# Altium footprint library CONN_RF.PcbLib: 23 footprints (part 1 of 2)
Each footprint in its own frame and in the unit in brackets; x right, y up, seen from the top. Pads: shape width x height; smd on the part's side, far side on the other; paste and mask are expansions set on the pad; w line width, h text height; cw(c..) or ccw(c..) is an arc to the next point about the centre after c.
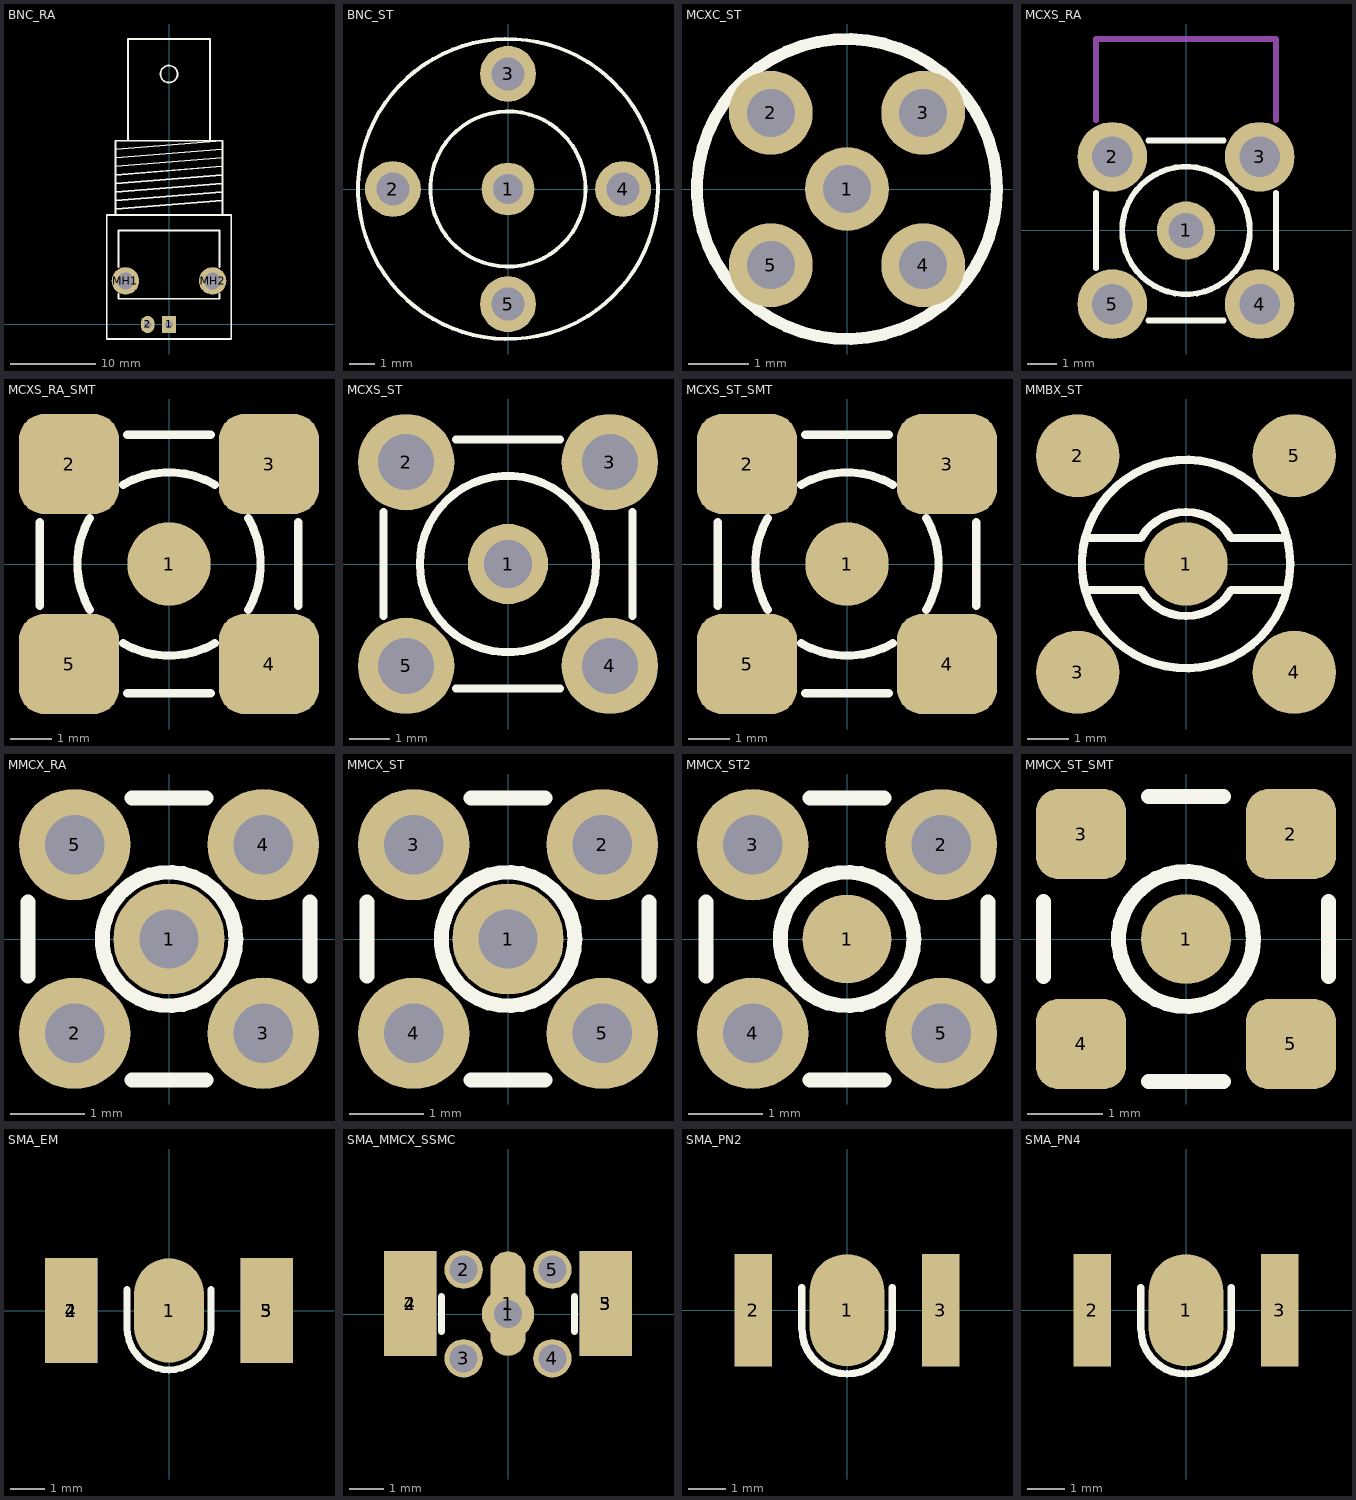
[diagram p0: the footprints below, top view; thin cyan lines are the x and y axes]

## BNC_RA [mm] "BNC connector, right angle PCB-mounted Elbow"
pads (4):
  rect 1.6x2 hole 0.9: 1(0,0)
  oval 1.6x2 hole 0.9: 2(-2.5,0)
  round 3.2 hole 2: MH1(-5.1,5.1) MH2(5.1,5.1)
Top Overlay:
  circle w0.2: c0,29.3 r1
  lines w0.2: -6.25,13.5 6.25,14.5 ; -6.25,14.5 6.25,15.5 ; -6.25,15.5 6.25,16.5 ; -6.25,16.5 6.25,17.5 ; -6.25,17.5 6.25,18.5 ; -6.25,18.5 6.25,19.5 ; -6.25,19.5 6.25,20.5 ; -6.25,20.5 6.25,21.5 ; -5.9,3.6 -5.9,3 5.9,3 5.9,3.6 ; -5.9,6.7 -5.9,11 5.9,11 5.9,6.7 ; -6.25,12.8 -7.3,12.8 -7.3,-1.7 7.3,-1.7 7.3,12.8 6.25,12.8 ; -6.25,12.8 -6.25,21.5 -4.8,21.5 ; -6.25,12.8 6.25,12.8 ; -4.8,21.5 4.8,21.5 ; -4.8,21.5 -4.8,33.4 4.8,33.4 4.8,21.5 ; 4.8,21.5 6.25,21.5 ; 6.25,12.8 6.25,21.5
3D body "User Library-bnc-1.SLDPRT": height 17.13, standoff -2.47, extent -7.2,-1.6 7.2,33.3

## BNC_ST [mil] "BNC Short Connector"
height 543.31
pads (5):
  round 80 hole 45: 1(0,0)
  round 85 hole 50: 2(-175.2,0) 3(0,175.2) 4(175.2,0) 5(0,-175.2)
Top Overlay:
  circle w5.91: c0,0 r118.11
  circle w5.91: c0,0 r228.35
3D body "My BNC Short.STEP": height 538.19, standoff -173.23, extent -218.11,-218.11 218.11,218.11

## MCXC_ST [mil] "CONN, RF, MCX, CIRCULAR, STRAIGHT"
pads (5):
  round 55 hole 31.5: 1(0,0) 2(-50,50) 3(50,50) 4(50,-50) 5(-50,-50)
Top Overlay:
  circle w7.87: c0,0 r98.43

## MCXS_RA [mm] "CONN, RF, MCX, SQUARE, STRAIGHT, MCX-J-P-H-RA-TH1"
pads (5):
  round 2 hole 1.2: 1(0,0)
  round 2.4 hole 1.4: 2(-2.54,2.54) 3(2.54,2.54) 4(2.54,-2.54) 5(-2.54,-2.54)
Top Overlay:
  circle w0.2: c0,0 r2.2
  lines w0.2: -3.1,-1.3 -3.1,1.3 ; -1.3,-3.1 1.3,-3.1 ; -1.3,3.1 1.3,3.1 ; 3.1,-1.3 3.1,1.3
Mechanical 1:
  lines w0.2: -3.1,3.8 -3.1,6.6 3.1,6.6 3.1,3.8
3D body "733660032.stp": height 6, standoff -4, extent -3,-2.965 3,6.565

## MCXS_RA_SMT [mm] "CONN, RF, MCX, SQUARE, STRAIGHT, MCX-J-P-H-RA-SM1"
pads (5):
  round 2 smd: 1(0,0)
  rrect50% 2.4x2.4 smd: 2(-2.4,2.4) 3(2.4,2.4) 4(2.4,-2.4) 5(-2.4,-2.4)
Top Overlay:
  lines w0.2: -3.1,-1 -3.1,1 ; -1.905,-1.1 cw(c0,0) -1.905,1.1 ; -1.1,-1.905 ccw(c0,0) 1.1,-1.905 ; -1.1,1.905 cw(c0,0) 1.1,1.905 ; -1,-3.1 1,-3.1 ; -1,3.1 1,3.1 ; 1.905,-1.1 ccw(c0,0) 1.905,1.1 ; 3.1,-1 3.1,1
3D body "MCX_R_SMT.stp": height 6.5, standoff 0, extent -3,-3.05 3,6.45

## MCXS_ST [mm] "CONN, RF, MCX, SQUARE, STRAIGHT, MCX-J-P-H-ST-TH1"
pads (5):
  round 2 hole 1.2: 1(0,0)
  round 2.4 hole 1.4: 2(-2.54,2.54) 3(2.54,2.54) 4(2.54,-2.54) 5(-2.54,-2.54)
Top Overlay:
  circle w0.2: c0,0 r2.2
  lines w0.2: -3.1,-1.3 -3.1,1.3 ; -1.3,-3.1 1.3,-3.1 ; -1.3,3.1 1.3,3.1 ; 3.1,-1.3 3.1,1.3
3D body "MCX-J-P-H-ST-TH1.stp": height 5.91, standoff -2.6, extent -3,-3 3,3

## MCXS_ST_SMT [mm] "CONN, RF, MCX, SQUARE, STRAIGHT, MCX-J-P-H-ST-SM1"
pads (5):
  round 2 smd: 1(0,0)
  rrect50% 2.4x2.4 smd: 2(-2.4,2.4) 3(2.4,2.4) 4(2.4,-2.4) 5(-2.4,-2.4)
Top Overlay:
  lines w0.2: -3.1,-1 -3.1,1 ; -1.905,-1.1 cw(c0,0) -1.905,1.1 ; -1.1,-1.905 ccw(c0,0) 1.1,-1.905 ; -1.1,1.905 cw(c0,0) 1.1,1.905 ; -1,-3.1 1,-3.1 ; -1,3.1 1,3.1 ; 1.905,-1.1 ccw(c0,0) 1.905,1.1 ; 3.1,-1 3.1,1
3D body "MCX_S_SMT.stp": height 6, standoff 0, extent -2.94,-2.94 2.94,2.94

## MMBX_ST [mm]
pads (5):
  round 2 smd: 1(0,0) 2(-2.6,2.6) 3(-2.6,-2.6) 4(2.6,-2.6) 5(2.6,2.6)
Top Overlay:
  circle w0.2: c0,0 r2.5
  lines w0.2: -2.3,-0.625 -1.083,-0.625 ccw(c0,0) 1.083,-0.625 2.3,-0.625 ; -2.3,0.625 -1.083,0.625 cw(c0,0) 1.083,0.625 2.3,0.625
3D body "mmbx_R223424000.stp": height 3.1, standoff 0, extent -5.798,-5.798 5.798,5.798

## MMCX_RA [mm] "RF connector, right-angle THD, TE 1-1634010-0, TE 1408151"
pads (5):
  round 1.5 hole 0.8 mask+0.1: 1(0,0) 2(-1.27,-1.27) 3(1.27,-1.27) 4(1.27,1.27) 5(-1.27,1.27)
Top Overlay:
  circle w0.2: c0,0 r0.9
  lines w0.2: -1.9,-0.5 -1.9,0.5 ; -0.5,-1.9 0.5,-1.9 ; -0.5,1.9 0.5,1.9 ; 1.9,-0.5 1.9,0.5
3D body "mmcx pcb right angle plug.step": height 3.61, standoff -2.94, extent -1.725,-1.765 1.725,4.735

## MMCX_ST [mm]
pads (5):
  round 1.5 hole 0.8 mask+0.1: 1(0,0) 2(1.27,1.27) 3(-1.27,1.27) 4(-1.27,-1.27) 5(1.27,-1.27)
Top Overlay:
  circle w0.2: c0,0 r0.9
  lines w0.2: -1.9,-0.5 -1.9,0.5 ; -0.5,-1.9 0.5,-1.9 ; -0.5,1.9 0.5,1.9 ; 1.9,-0.5 1.9,0.5
3D body "1408150-01-c-3d.stp": height 4.5, standoff -3, extent -1.75,-1.71 1.75,1.79

## MMCX_ST2 [mm] "MMCX-J-P-X-ST-MT1 straight smt pin with 4 tht ground pin"
pads (5):
  round 1.2 smd mask+0.1: 1(0,0)
  round 1.5 hole 0.8 mask+0.1: 2(1.27,1.27) 3(-1.27,1.27) 4(-1.27,-1.27) 5(1.27,-1.27)
Top Overlay:
  circle w0.2: c0,0 r0.9
  lines w0.2: -1.9,-0.5 -1.9,0.5 ; -0.5,-1.9 0.5,-1.9 ; -0.5,1.9 0.5,1.9 ; 1.9,-0.5 1.9,0.5
3D body "MMCX-J-P-X-ST-MT1.step": height 5.04, standoff -2.36, extent -1.75,-1.71 1.75,1.79

## MMCX_ST_SMT [mm] "MMCX PCB-JCK SMT straight"
pads (5):
  round 1.2 smd mask+0.1: 1(0,0)
  rrect50% 1.2x1.2 smd mask+0.1: 2(1.4,1.4) 3(-1.4,1.4) 4(-1.4,-1.4) 5(1.4,-1.4)
Top Overlay:
  circle w0.2: c0,0 r0.9
  lines w0.2: -1.9,-0.5 -1.9,0.5 ; -0.5,-1.9 0.5,-1.9 ; -0.5,1.9 0.5,1.9 ; 1.9,-0.5 1.9,0.5
3D body "User Library-Molex_MMCX_734152061.step": height 5, standoff 0, extent -1.75,-1.75 1.75,1.75

## SMA_EM [mm] "SMA-J-P-H-ST-EM1 edge mounting"
pads (5):
  oval 2x3 smd: 1(0,0)
  rect 1.5x3 smd: 2(-2.8,0) 3(2.8,0)
  rect 1.5x3 smd far side: 4(-2.8,0) 5(2.8,0)
Top Overlay:
  lines w0.2: -1.2,0.6 -1.2,-0.5 ccw(c0,-0.5) 1.2,-0.5 1.2,0.6
3D body "SMA-J-P-H-ST-EM1.STEP": height 3.51, standoff -2.84, extent -3.175,-1.1 3.175,12.23

## SMA_MMCX_SSMC [mm]
pads (10):
  round 1.5 hole 0.8 mask+0.1: 1(0,0)
  oval 1x3 smd: 1(0,0.3)
  rect 1.5x3 smd: 2(-2.8,0.3) 3(2.8,0.3)
  round 1.1 / inner round 1.1 / far side oval 1.2x1.5 hole 0.8 mask+0.1: 2(-1.27,1.27) 3(-1.27,-1.27) 4(1.27,-1.27) 5(1.27,1.27)
  rect 1.5x3 smd far side: 4(-2.8,0.3) 5(2.8,0.3)
Top Overlay:
  lines w0.2: -1.9,-0.5 -1.9,0.5 ; 1.9,-0.5 1.9,0.5
3D body "1408150-01-c-3d.stp": height 4.5, standoff -3, extent -1.79,-1.75 1.71,1.75
3D body "SMA-J-P-H-ST-EM1.STEP": height 3.51, standoff -2.84, extent -3.175,-0.8 3.175,12.53

## SMA_PN2 [mm] "SMA-J-P-H-ST-PN2, 1pin Wall mounting"
pads (3):
  oval 2x3 smd: 1(0,0)
  rect 1x3 smd: 2(-2.5,0) 3(2.5,0)
Top Overlay:
  lines w0.2: -1.2,0.6 -1.2,-0.5 ccw(c0,-0.5) 1.2,-0.5 1.2,0.6
3D body "SMA-J-P-H-ST-PN2.STEP": height 3.86, standoff -2.46, extent -7.935,-1 7.945,12.23

## SMA_PN4 [mm] "SMA-J-P-H-ST-PN4 1pin Wall mounting"
pads (3):
  oval 2x3 smd: 1(0,0)
  rect 1x3 smd: 2(-2.5,0) 3(2.5,0)
Top Overlay:
  lines w0.2: -1.2,0.6 -1.2,-0.5 ccw(c0,-0.5) 1.2,-0.5 1.2,0.6
3D body "SMA-J-P-H-ST-PN4.STEP": height 6.99, standoff -5.71, extent -6.35,-1.03 6.35,12.2